# EAGLE library part OWN_PARTS2_CON_MOLEX_CMC_36638_0010 (library ToWellPower_Logic)
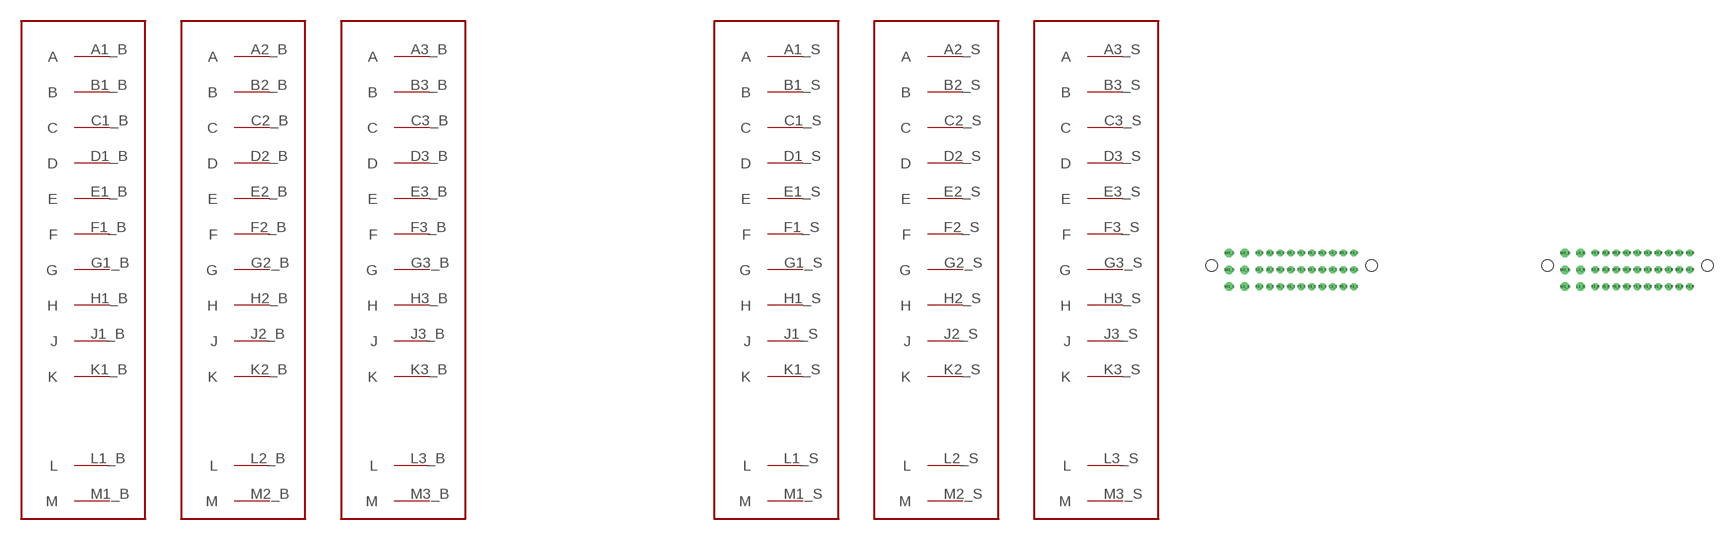
[diagram p1: symbol with the pads of OWN_PARTS2_CON_MOLEX_CMC_36638_0010; footprint OWN_PARTS2_CON_MOLEX_CMC_36638_0010]

Designator prefix -; gates B1=OWN_PARTS2_CON_MOLEX_CMC_12P B2=OWN_PARTS2_CON_MOLEX_CMC_12P B3=OWN_PARTS2_CON_MOLEX_CMC_12P S1=OWN_PARTS2_CON_MOLEX_CMC_12P S2=OWN_PARTS2_CON_MOLEX_CMC_12P S3=OWN_PARTS2_CON_MOLEX_CMC_12P

## OWN_PARTS2_CON_MOLEX_CMC_36638_0010  [OWN_PARTS2_CON_MOLEX_CMC_36638_0010]
A1_B  B1:A
A1_S  S1:A
A2_B  B2:A
A2_S  S2:A
A3_B  B3:A
A3_S  S3:A
B1_B  B1:B
B1_S  S1:B
B2_B  B2:B
B2_S  S2:B
B3_B  B3:B
B3_S  S3:B
C1_B  B1:C
C1_S  S1:C
C2_B  B2:C
C2_S  S2:C
C3_B  B3:C
C3_S  S3:C
D1_B  B1:D
D1_S  S1:D
D2_B  B2:D
D2_S  S2:D
D3_B  B3:D
D3_S  S3:D
E1_B  B1:E
E1_S  S1:E
E2_B  B2:E
E2_S  S2:E
E3_B  B3:E
E3_S  S3:E
F1_B  B1:F
F1_S  S1:F
F2_B  B2:F
F2_S  S2:F
F3_B  B3:F
F3_S  S3:F
G1_B  B1:G
G1_S  S1:G
G2_B  B2:G
G2_S  S2:G
G3_B  B3:G
G3_S  S3:G
H1_B  B1:H
H1_S  S1:H
H2_B  B2:H
H2_S  S2:H
H3_B  B3:H
H3_S  S3:H
J1_B  B1:J
J1_S  S1:J
J2_B  B2:J
J2_S  S2:J
J3_B  B3:J
J3_S  S3:J
K1_B  B1:K
K1_S  S1:K
K2_B  B2:K
K2_S  S2:K
K3_B  B3:K
K3_S  S3:K
L1_B  B1:L
L1_S  S1:L
L2_B  B2:L
L2_S  S2:L
L3_B  B3:L
L3_S  S3:L
M1_B  B1:M
M1_S  S1:M
M2_B  B2:M
M2_S  S2:M
M3_B  B3:M
M3_S  S3:M

## Footprint OWN_PARTS2_CON_MOLEX_CMC_36638_0010 (pad centres in mm)
drill 1.1 octagon: A1_B 109.7,0; A1_S 29.7,0; A2_B 109.7,4; A2_S 29.7,4; A3_B 109.7,8; A3_S 29.7,8; B1_B 107.2,0; B1_S 27.2,0; B2_B 107.2,4; B2_S 27.2,4; B3_B 107.2,8; B3_S 27.2,8; C1_B 104.7,0; C1_S 24.7,0; C2_B 104.7,4; C2_S 24.7,4; C3_B 104.7,8; C3_S 24.7,8; D1_B 102.2,0; D1_S 22.2,0; D2_B 102.2,4; D2_S 22.2,4; D3_B 102.2,8; D3_S 22.2,8; E1_B 99.7,0; E1_S 19.7,0; E2_B 99.7,4; E2_S 19.7,4; E3_B 99.7,8; E3_S 19.7,8; F1_B 97.2,0; F1_S 17.2,0; F2_B 97.2,4; F2_S 17.2,4; F3_B 97.2,8; F3_S 17.2,8; G1_B 94.7,0; G1_S 14.7,0; G2_B 94.7,4; G2_S 14.7,4; G3_B 94.7,8; G3_S 14.7,8; H1_B 92.2,0; H1_S 12.2,0; H2_B 92.2,4; H2_S 12.2,4; H3_B 92.2,8; H3_S 12.2,8; J1_B 89.7,0; J1_S 9.7,0; J2_B 89.7,4; J2_S 9.7,4; J3_B 89.7,8; J3_S 9.7,8; K1_B 87.2,0; K1_S 7.2,0; K2_B 87.2,4; K2_S 7.2,4; K3_B 87.2,8; K3_S 7.2,8
drill 1.1 pad 2 octagon: L1_B 83.7,0; L1_S 3.7,0; L2_B 83.7,4; L2_S 3.7,4; L3_B 83.7,8; L3_S 3.7,8; M1_B 80,0; M1_S 0,0; M2_B 80,4; M2_S 0,4; M3_B 80,8; M3_S 0,8
hole 2.7 at 113.9,5
hole 2.7 at 75.8,5
hole 2.7 at 33.9,5
hole 2.7 at -4.2,5